# Altium footprint library Analog_IC.PcbLib: 26 footprints (part 2 of 2)
Each footprint in its own frame and in the unit in brackets; x right, y up, seen from the top. Pads: shape width x height; smd on the part's side, far side on the other; paste and mask are expansions set on the pad; w line width, h text height; cw(c..) or ccw(c..) is an arc to the next point about the centre after c.
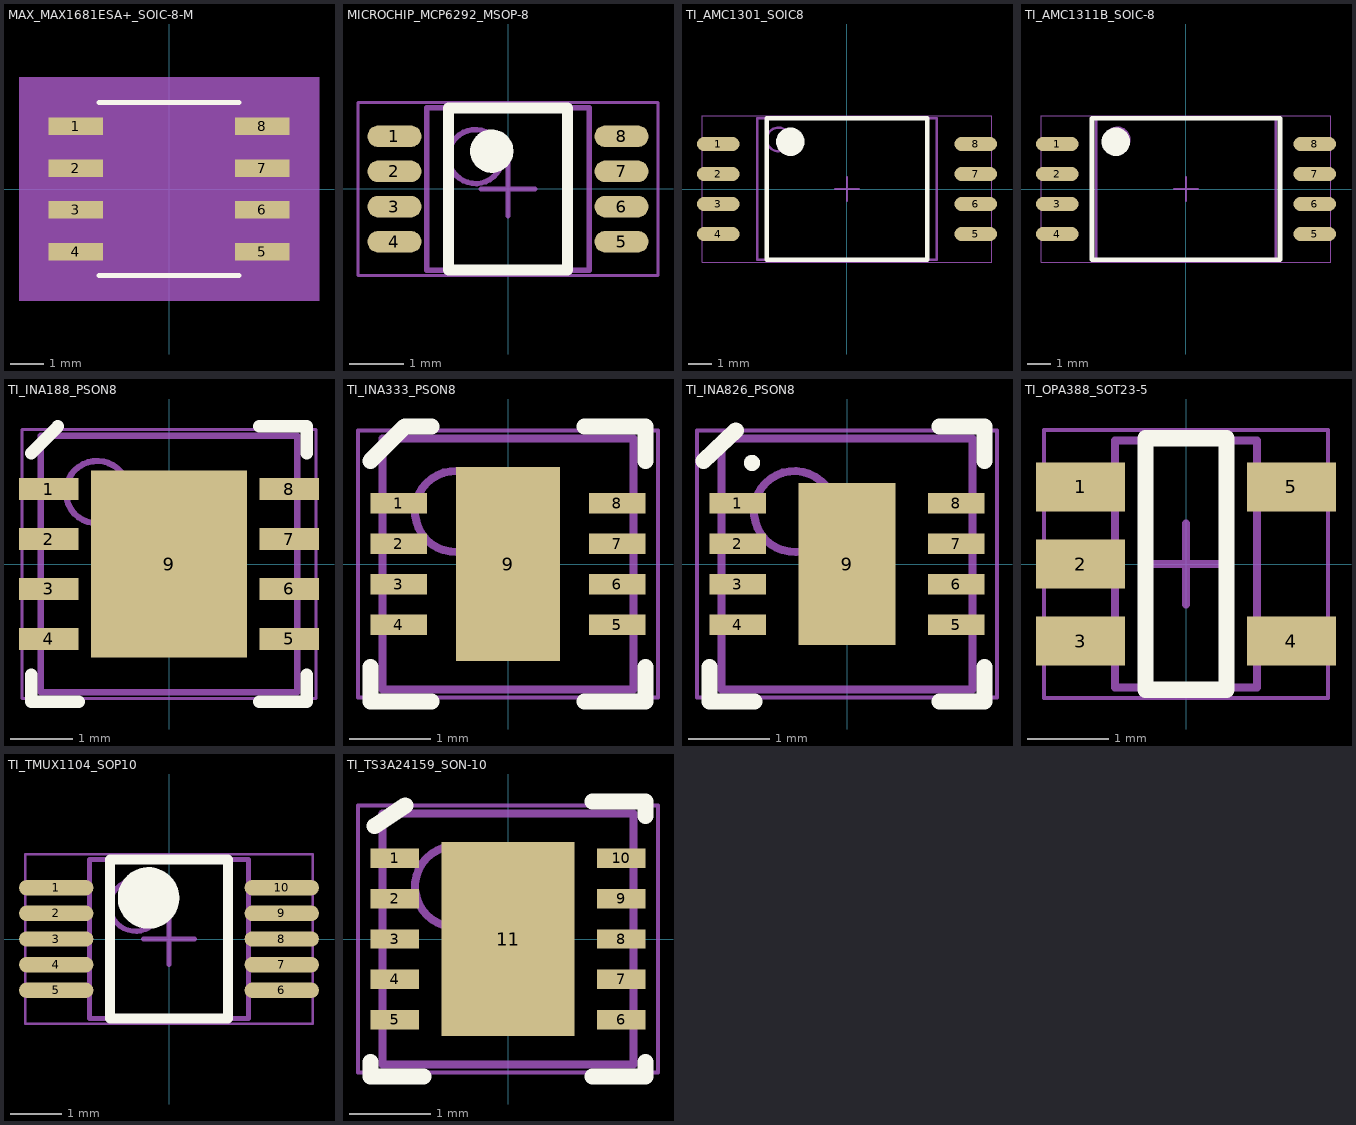
[diagram p1: the footprints below, top view; thin cyan lines are the x and y axes]

## MAX_MAX1681ESA+_SOIC-8-M [mil] "IC REG CHARGE PUMP INV 8SOIC"
height 61.02
pads (8):
  rect 65.5x21 smd paste+0 mask+0: 1(-111.25,75) 2(-111.25,25) 3(-111.25,-25) 4(-111.25,-75) 5(111.25,-75) 6(111.25,-25) 7(111.25,25) 8(111.25,75)
Top Overlay:
  lines w6: -83.5,-103.5 83.5,-103.5 ; -83.5,103.5 83.5,103.5
Mechanical 5:
  region: 179,-133.5 -179,-133.5 -179,133.5 179,133.5
Mechanical 13:
  lines w0: -12,98.5 ccw(c0,98.5) 12,98.5
  lines w1: -122,-84.5 -78.5,-84.5 -78.5,-65.5 -122,-65.5 -122,-84.5 ; -122,-34.5 -78.5,-34.5 -78.5,-15.5 -122,-15.5 -122,-34.5 ; -122,15.5 -78.5,15.5 -78.5,34.5 -122,34.5 -122,15.5 ; -122,65.5 -78.5,65.5 -78.5,84.5 -122,84.5 -122,65.5 ; -78.5,-98.5 -78.5,98.5 78.5,98.5 78.5,-98.5 -78.5,-98.5 ; 78.5,-84.5 122,-84.5 122,-65.5 78.5,-65.5 78.5,-84.5 ; 78.5,-34.5 122,-34.5 122,-15.5 78.5,-15.5 78.5,-34.5 ; 78.5,15.5 122,15.5 122,34.5 78.5,34.5 78.5,15.5 ; 78.5,65.5 122,65.5 122,84.5 78.5,84.5 78.5,65.5
Mechanical 15:
  region: -98.5,-105.5 -164,-105.5 -164,105.5 -98.5,105.5 -98.5,118.5 98.5,118.5 98.5,105.5 164,105.5 164,-105.5 98.5,-105.5 98.5,-118.5 -98.5,-118.5
  lines w6: -164,-105.5 -98.5,-105.5 -98.5,-118.5 98.5,-118.5 98.5,-105.5 164,-105.5 164,105.5 98.5,105.5 98.5,118.5 -98.5,118.5 -98.5,105.5 -164,105.5 -164,-105.5
3D body: height 10, standoff 0, extent 0,0 10,10
3D body "21-0041B_8_MXM.step": height 69.09, standoff 0, extent -122,-98.5 122.01,98.5

## MICROCHIP_MCP6292_MSOP-8 [mm] "TSOP, 8-Leads, Body 3.00x3.00mm, Pitch 0.65mm, IPC High Density"
height 1.1
pads (8):
  oval 1x0.4 smd mask+0.05: 1(-2.1,0.975) 2(-2.1,0.325) 3(-2.1,-0.325) 4(-2.1,-0.975) 5(2.1,-0.975) 6(2.1,-0.325) 7(2.1,0.325) 8(2.1,0.975)
Top Overlay:
  circle w0.4: c-0.3,0.7 r0.2
  lines w0.2: -1.1,-1.5 1.1,-1.5 1.1,1.5 -1.1,1.5 -1.1,-1.5
Mechanical 13:
  circle w0.1: c-0.6,0.6 r0.5
  lines w0.1: -1.5,-1.5 1.5,-1.5 1.5,1.5 -1.5,1.5 -1.5,-1.5
Mechanical 15:
  lines w0.05: -2.775,-1.6 2.775,-1.6 2.775,1.6 -2.775,1.6 -2.775,-1.6
  lines w0.1: -0.5,0 0.5,0 ; 0,-0.5 0,0.5
3D body "MICROCHIP_MCP6292_MSOP-8.step": height 1.1, standoff 0, extent -2.45,-1.5 2.45,1.5

## TI_AMC1301_SOIC8 [mm] "SOIC, 8-Leads, Body 4.43x7.50mm, Pitch 1.27mm, IPC High Density"
height 2.8
pads (8):
  oval 1.8x0.6 smd: 1(-5.45,1.905) 2(-5.45,0.635) 3(-5.45,-0.635) 4(-5.45,-1.905) 5(5.45,-1.905) 6(5.45,-0.635) 7(5.45,0.635) 8(5.45,1.905)
Top Overlay:
  circle w0.6: c-2.4,2 r0.3
  lines w0.2: -3.4,-3 3.4,-3 3.4,3 -3.4,3 -3.4,-3
Mechanical 13:
  circle w0.1: c-2.9,2.1 r0.5
  lines w0.1: -3.8,-3 3.8,-3 3.8,3 -3.8,3 -3.8,-3
Mechanical 15:
  lines w0.05: -6.125,-3.1 6.125,-3.1 6.125,3.1 -6.125,3.1 -6.125,-3.1
  lines w0.1: -0.5,0 0.5,0 ; 0,-0.5 0,0.5
3D body "SOIC127P1150X280-8L.step": height 2.8, standoff 0, extent -5.75,-3 5.75,3

## TI_AMC1311B_SOIC-8 [mm] "SOIC, 8-Leads, Body 5.85x7.50mm, Pitch 1.27mm, IPC High Density"
height 2.8
pads (8):
  oval 1.8x0.6 smd: 1(-5.45,1.905) 2(-5.45,0.635) 3(-5.45,-0.635) 4(-5.45,-1.905) 5(5.45,-1.905) 6(5.45,-0.635) 7(5.45,0.635) 8(5.45,1.905)
Top Overlay:
  circle w0.6: c-2.975,2 r0.3
  lines w0.2: -3.975,-3 -3.975,3 3.975,3 3.975,-3 -3.975,-3
Mechanical 13:
  circle w0.1: c-2.9,2.1 r0.5
  lines w0.1: -3.8,-3 -3.8,3 3.8,3 3.8,-3 -3.8,-3
Mechanical 15:
  lines w0.05: -6.125,-3.1 -6.125,3.1 6.125,3.1 6.125,-3.1 -6.125,-3.1
  lines w0.1: -0.5,0 0.5,0 ; 0,-0.5 0,0.5
3D body "TI_AMC1311B_SOIC-8.step": height 2.8, standoff 0, extent -5.75,-3 5.75,3

## TI_INA188_PSON8 [mm] "SON, 8-Leads, Body 4.00x4.00mm, Pitch 0.80mm, Thermal Pad 3.00x2.49mm, IPC High Density"
height 1
pads (9):
  rect 0.95x0.35 smd mask+0.05: 1(-1.925,1.2) 2(-1.925,0.4) 3(-1.925,-0.4) 4(-1.925,-1.2) 5(1.925,-1.2) 6(1.925,-0.4) 7(1.925,0.4) 8(1.925,1.2)
  rect 2.49x3 smd paste-1.245 mask+0.05: 9(0,0)
Top Overlay:
  lines w0.2: -2.2,-1.775 -2.2,-2.2 -1.445,-2.2 ; -2.2,1.775 -1.778,2.2 ; 1.445,-2.2 2.2,-2.2 2.2,-1.775 ; 1.445,2.2 2.2,2.2 2.2,1.775
Top Paste:
  rectangle: 0.1,-1.4 1.15,-0.1
  rectangle: 0.1,0.1 1.15,1.4
  rectangle: -1.15,-1.4 -0.1,-0.1
  rectangle: -1.15,0.1 -0.1,1.4
Mechanical 13:
  circle w0.1: c-1.15,1.15 r0.5
  lines w0.1: -2.05,-2.05 2.05,-2.05 2.05,2.05 -2.05,2.05 -2.05,-2.05
Mechanical 15:
  lines w0.05: -2.355,-2.15 2.355,-2.15 2.355,2.15 -2.355,2.15 -2.355,-2.15
  lines w0.1: -0.5,0 0.5,0 ; 0,-0.5 0,0.5
3D body "TI_INA118_PSON8.step": height 1, standoff 0, extent -2.051,-2.05 2.051,2.05

## TI_INA333_PSON8 [mm] "SON, 8-Leads, Body 3.00x3.00mm, Pitch 0.50mm, Thermal Pad 2.40x1.29mm, IPC High Density"
height 0.8
pads (9):
  rect 0.7x0.25 smd mask+0.07: 1(-1.35,0.75) 2(-1.35,0.25) 3(-1.35,-0.25) 4(-1.35,-0.75) 5(1.35,-0.75) 6(1.35,-0.25) 7(1.35,0.25) 8(1.35,0.75)
  rect 1.29x2.4 smd mask+0.07: 9(0,0)
Top Overlay:
  lines w0.2: -1.7,-1.275 -1.7,-1.7 -0.945,-1.7 ; -1.7,1.275 -1.275,1.7 -0.945,1.7 ; 0.945,-1.7 1.7,-1.7 1.7,-1.275 ; 0.945,1.7 1.7,1.7 1.7,1.275
Mechanical 13:
  circle w0.1: c-0.65,0.65 r0.5
  lines w0.1: -1.55,-1.55 -1.55,1.55 1.55,1.55 1.55,-1.55 -1.55,-1.55
Mechanical 15:
  lines w0.05: -1.855,-1.65 -1.855,1.65 1.855,1.65 1.855,-1.65 -1.855,-1.65
  lines w0.1: -0.5,0 0.5,0 ; 0,-0.5 0,0.5
3D body "TI_INA333_PSON8.step": height 0.8, standoff 0, extent -1.551,-1.55 1.551,1.55

## TI_INA826_PSON8 [mm] "SON, 8-Leads, Body 3.00x3.00mm, Pitch 0.50mm, Thermal Pad 2.06x2.24mm, IPC High Density"
height 0.8
pads (9):
  rect 0.7x0.25 smd mask+0.07: 1(-1.35,0.75) 2(-1.35,0.25) 3(-1.35,-0.25) 4(-1.35,-0.75) 5(1.35,-0.75) 6(1.35,-0.25) 7(1.35,0.25) 8(1.35,0.75)
  rect 1.2x2 smd mask+0.07: 9(0,0)
Top Overlay:
  circle w0.1: c-1.175,1.25 r0.05
  lines w0.2: -1.775,1.275 -1.375,1.65 ; -1.7,-1.275 -1.7,-1.7 -1.145,-1.7 ; 1.145,-1.7 1.7,-1.7 1.7,-1.275 ; 1.145,1.7 1.7,1.7 1.7,1.275
Mechanical 13:
  circle w0.1: c-0.65,0.65 r0.5
  lines w0.1: -1.55,-1.55 1.55,-1.55 1.55,1.55 -1.55,1.55 -1.55,-1.55
Mechanical 15:
  lines w0.05: -1.855,-1.65 1.855,-1.65 1.855,1.65 -1.855,1.65 -1.855,-1.65
  lines w0.1: -0.5,0 0.5,0 ; 0,-0.5 0,0.5
3D body "TI_INA826_PSON8.step": height 0.8, standoff 0, extent -1.551,-1.55 1.551,1.55

## TI_OPA388_SOT23-5 [mm] "SOT23, 5-Leads, Body 2.90x2.80mm, Pitch 0.95mm, IPC High Density"
height 1.45
pads (5):
  rect 1.1x0.6 smd mask+0.05: 1(-1.3,0.95) 2(-1.3,0) 3(-1.3,-0.95) 4(1.3,-0.95) 5(1.3,0.95)
Top Overlay:
  lines w0.2: -0.5,-1.55 0.5,-1.55 0.5,1.55 -0.5,1.55 -0.5,-1.55
Mechanical 13:
  lines w0.1: -0.875,-1.525 -0.875,1.525 0.875,1.525 0.875,-1.525 -0.875,-1.525
Mechanical 15:
  lines w0.05: -1.75,-1.65 -1.75,1.65 1.75,1.65 1.75,-1.65 -1.75,-1.65
  lines w0.1: -0.5,0 0.5,0 ; 0,-0.5 0,0.5
3D body "TI_OPA388_SOT23-5.step": height 1.45, standoff 0, extent -1.5,-1.525 1.5,1.525

## TI_TMUX1104_SOP10 [mm] "TSSOP, 10-Leads, Body 3.00x3.00mm, Pitch 0.50mm, IPC High Density"
height 1.1
pads (10):
  oval 1.45x0.3 smd mask+0.05: 1(-2.2,1) 2(-2.2,0.5) 3(-2.2,0) 4(-2.2,-0.5) 5(-2.2,-1) 6(2.2,-1) 7(2.2,-0.5) 8(2.2,0) 9(2.2,0.5) 10(2.2,1)
Top Overlay:
  circle w0.6: c-0.4,0.8 r0.3
  lines w0.2: -1.15,-1.55 1.15,-1.55 1.15,1.55 -1.15,1.55 -1.15,-1.55
Mechanical 13:
  circle w0.1: c-0.65,0.65 r0.5
  lines w0.1: -1.55,-1.55 1.55,-1.55 1.55,1.55 -1.55,1.55 -1.55,-1.55
Mechanical 15:
  lines w0.05: -2.8,-1.65 2.8,-1.65 2.8,1.65 -2.8,1.65 -2.8,-1.65
  lines w0.1: -0.5,0 0.5,0 ; 0,-0.5 0,0.5
3D body "TI_TMUX1104_SOP10.step": height 1.1, standoff 0, extent -2.45,-1.55 2.45,1.55

## TI_TS3A24159_SON-10 [mm] "SON, 10-Leads, Body 3.00x3.00mm, Pitch 0.50mm, Thermal Pad 2.40x1.49mm, IPC High Density"
height 1
pads (11):
  rect 0.6x0.24 smd mask+0.07: 1(-1.4,1) 2(-1.4,0.5) 3(-1.4,0) 4(-1.4,-0.5) 5(-1.4,-1) 6(1.4,-1) 7(1.4,-0.5) 8(1.4,0) 9(1.4,0.5) 10(1.4,1)
  rect 1.65x2.4 smd mask+0.07: 11(0,0)
Top Overlay:
  lines w0.2: -1.7,-1.52 -1.7,-1.7 -1.045,-1.7 ; -1.651,1.397 -1.27,1.651 ; 1.045,-1.7 1.7,-1.7 1.7,-1.52 ; 1.045,1.7 1.7,1.7 1.7,1.52
Mechanical 13:
  circle w0.1: c-0.65,0.65 r0.5
  lines w0.1: -1.55,-1.55 -1.55,1.55 1.55,1.55 1.55,-1.55 -1.55,-1.55
Mechanical 15:
  lines w0.05: -1.855,-1.65 -1.855,1.65 1.855,1.65 1.855,-1.65 -1.855,-1.65
  lines w0.1: -0.5,0 0.5,0 ; 0,-0.5 0,0.5
3D body "TS3A24159_SON-10.step": height 1, standoff 0, extent -1.551,-1.55 1.551,1.55